# Altium schematic symbol library SCH - ARM CORTEX - STM STM32WL55CCUx.SchLib: 1 symbol
Pins are listed as number, name and electrical type; pins without a type are passive.

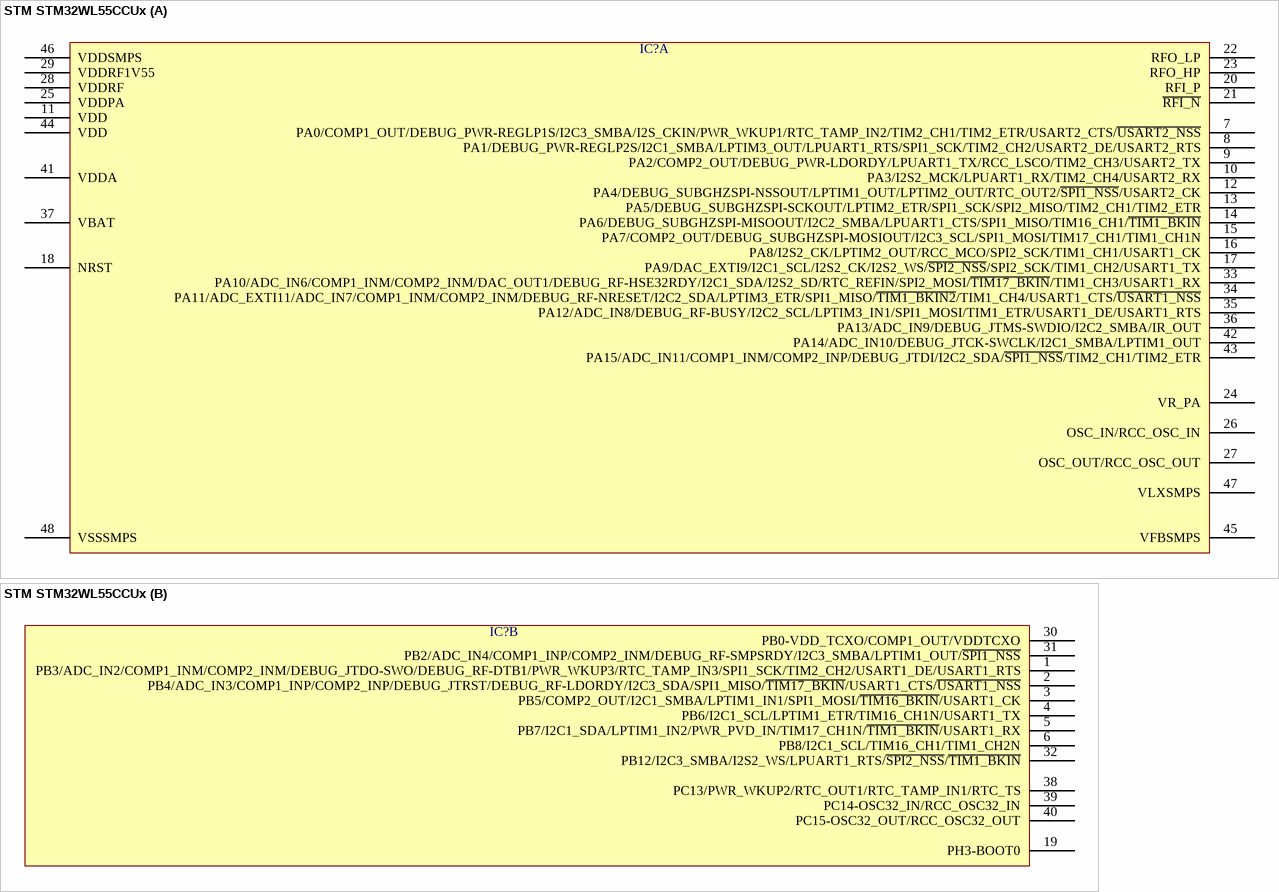
[diagram p0: symbol STM STM32WL55CCUx]

## STM STM32WL55CCUx
designator IC?  (value not drawn)
part A pins: 7 PA0/COMP1_OUT/DEBUG_PWR-REGLP1S/I2C3_SMBA/I2S_CKIN/PWR_WKUP1/RTC_TAMP_IN2/TIM2_CH1/TIM2_ETR/USART2_CTS/~{USART2_NSS}, 8 PA1/DEBUG_PWR-REGLP2S/I2C1_SMBA/LPTIM3_OUT/LPUART1_RTS/SPI1_SCK/TIM2_CH2/USART2_DE/USART2_RTS, 9 PA2/COMP2_OUT/DEBUG_PWR-LDORDY/LPUART1_TX/RCC_LSCO/TIM2_CH3/USART2_TX, 10 PA3/I2S2_MCK/LPUART1_RX/TIM2_CH4/USART2_RX, 11 VDD, 12 PA4/DEBUG_SUBGHZSPI-NSSOUT/LPTIM1_OUT/LPTIM2_OUT/RTC_OUT2/~{SPI1_NSS}/USART2_CK, 13 PA5/DEBUG_SUBGHZSPI-SCKOUT/LPTIM2_ETR/SPI1_SCK/SPI2_MISO/TIM2_CH1/TIM2_ETR, 14 PA6/DEBUG_SUBGHZSPI-MISOOUT/I2C2_SMBA/LPUART1_CTS/SPI1_MISO/TIM16_CH1/~{TIM1_BKIN}, 15 PA7/COMP2_OUT/DEBUG_SUBGHZSPI-MOSIOUT/I2C3_SCL/SPI1_MOSI/TIM17_CH1/TIM1_CH1N, 16 PA8/I2S2_CK/LPTIM2_OUT/RCC_MCO/SPI2_SCK/TIM1_CH1/USART1_CK, 17 PA9/DAC_EXTI9/I2C1_SCL/I2S2_CK/I2S2_WS/~{SPI2_NSS}/SPI2_SCK/TIM1_CH2/USART1_TX, 18 NRST, 20 RFI_P, 21 ~{RFI_N}, 22 RFO_LP, 23 RFO_HP, 24 VR_PA, 25 VDDPA, 26 OSC_IN/RCC_OSC_IN, 27 OSC_OUT/RCC_OSC_OUT, 28 VDDRF, 29 VDDRF1V55, 33 PA10/ADC_IN6/COMP1_INM/COMP2_INM/DAC_OUT1/DEBUG_RF-HSE32RDY/I2C1_SDA/I2S2_SD/RTC_REFIN/SPI2_MOSI/~{TIM17_BKIN}/TIM1_CH3/USART1_RX, 34 PA11/ADC_EXTI11/ADC_IN7/COMP1_INM/COMP2_INM/DEBUG_RF-NRESET/I2C2_SDA/LPTIM3_ETR/SPI1_MISO/~{TIM1_BKIN2}/TIM1_CH4/USART1_CTS/~{USART1_NSS}, 35 PA12/ADC_IN8/DEBUG_RF-BUSY/I2C2_SCL/LPTIM3_IN1/SPI1_MOSI/TIM1_ETR/USART1_DE/USART1_RTS, 36 PA13/ADC_IN9/DEBUG_JTMS-SWDIO/I2C2_SMBA/IR_OUT, 37 VBAT, 41 VDDA, 42 PA14/ADC_IN10/DEBUG_JTCK-SWCLK/I2C1_SMBA/LPTIM1_OUT, 43 PA15/ADC_IN11/COMP1_INM/COMP2_INP/DEBUG_JTDI/I2C2_SDA/~{SPI1_NSS}/TIM2_CH1/TIM2_ETR, 44 VDD, 45 VFBSMPS, 46 VDDSMPS, 47 VLXSMPS, 48 VSSSMPS
part B pins: 1 PB3/ADC_IN2/COMP1_INM/COMP2_INM/DEBUG_JTDO-SWO/DEBUG_RF-DTB1/PWR_WKUP3/RTC_TAMP_IN3/SPI1_SCK/TIM2_CH2/USART1_DE/USART1_RTS, 2 PB4/ADC_IN3/COMP1_INP/COMP2_INP/DEBUG_JTRST/DEBUG_RF-LDORDY/I2C3_SDA/SPI1_MISO/~{TIM17_BKIN}/USART1_CTS/~{USART1_NSS}, 3 PB5/COMP2_OUT/I2C1_SMBA/LPTIM1_IN1/SPI1_MOSI/~{TIM16_BKIN}/USART1_CK, 4 PB6/I2C1_SCL/LPTIM1_ETR/TIM16_CH1N/USART1_TX, 5 PB7/I2C1_SDA/LPTIM1_IN2/PWR_PVD_IN/TIM17_CH1N/~{TIM1_BKIN}/USART1_RX, 6 PB8/I2C1_SCL/TIM16_CH1/TIM1_CH2N, 19 PH3-BOOT0, 30 PB0-VDD_TCXO/COMP1_OUT/VDDTCXO, 31 PB2/ADC_IN4/COMP1_INP/COMP2_INM/DEBUG_RF-SMPSRDY/I2C3_SMBA/LPTIM1_OUT/~{SPI1_NSS}, 32 PB12/I2C3_SMBA/I2S2_WS/LPUART1_RTS/~{SPI2_NSS}/~{TIM1_BKIN}, 38 PC13/PWR_WKUP2/RTC_OUT1/RTC_TAMP_IN1/RTC_TS, 39 PC14-OSC32_IN/RCC_OSC32_IN, 40 PC15-OSC32_OUT/RCC_OSC32_OUT